# Altium footprint library Fancy.PcbLib: 119 footprints (part 2 of 8)
Each footprint in its own frame and in the unit in brackets; x right, y up, seen from the top. Pads: shape width x height; smd on the part's side, far side on the other; paste and mask are expansions set on the pad; w line width, h text height; cw(c..) or ccw(c..) is an arc to the next point about the centre after c.
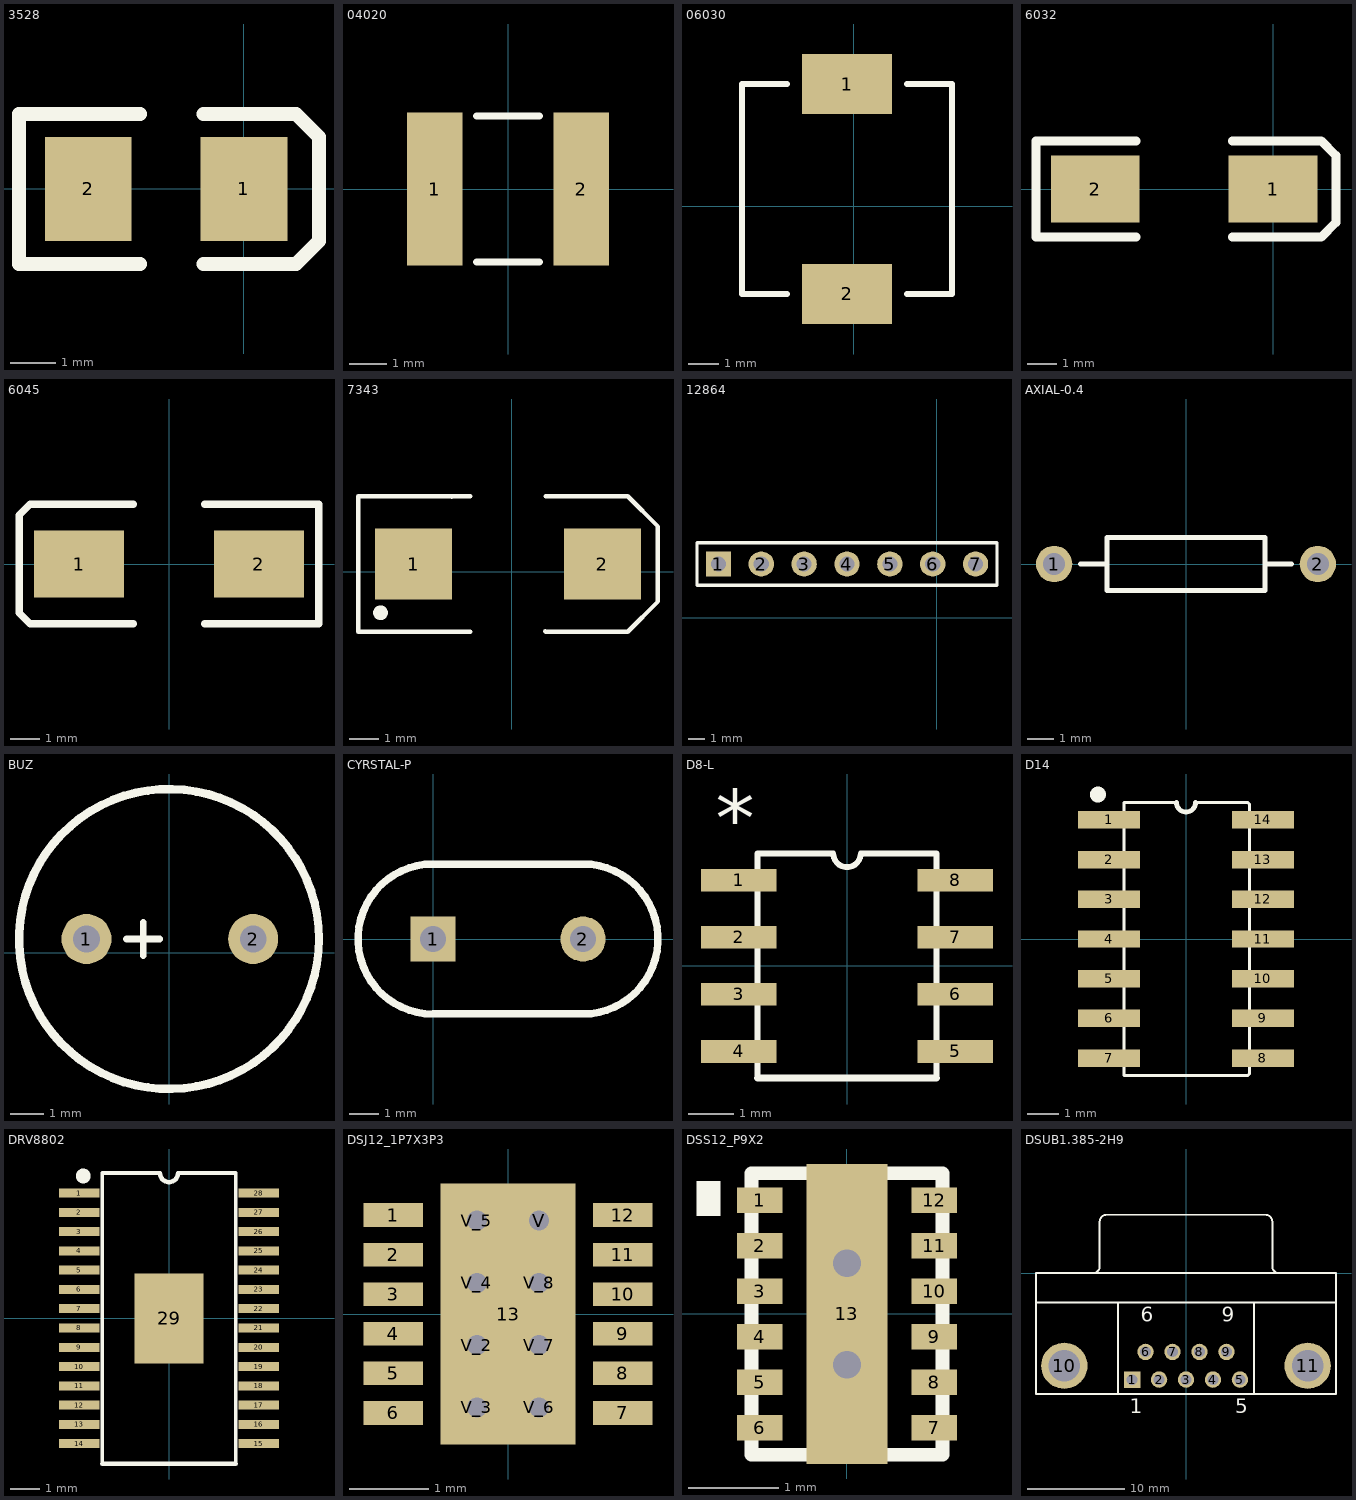
[diagram p1: the footprints below, top view; thin cyan lines are the x and y axes]

## 3528 [mil]
pads (2):
  rect 75x90 smd: 1(0,0) 2(-135,0)
Top Overlay:
  lines w12: -90,-65 -195,-65 -195,65 -90,65 ; -35,-65 45,-65 65,-45 65,45 45,65 -35,65

## 04020 [mm] "Chip Inductor"
height 0.6
pads (2):
  rect 1.5x4.14 smd: 1(-1.98,0) 2(1.98,0)
Top Overlay:
  lines w0.2: -0.85,-1.97 0.85,-1.97 ; -0.85,1.97 0.85,1.97

## 06030 [mm]
pads (2):
  rect 3x2 smd paste+0 mask+0.102: 1(-0.229,4.079) 2(-0.229,-2.921)
Top Overlay:
  lines w0.2: -2.229,-2.921 -3.729,-2.921 -3.729,4.079 -2.229,4.079 ; 1.771,-2.921 3.272,-2.921 3.272,4.079 1.771,4.079

## 6032 [mil]
pads (2):
  rect 120x90 smd: 1(0,0) 2(-240,0)
Top Overlay:
  lines w12: -185,-65 -320,-65 -320,65 -185,65 ; -55,-65 65,-65 85,-45 85,45 65,65 -55,65

## 6045 [mil]
pads (2):
  rect 120x90 smd: 1(-120,0) 2(120,0)
Top Overlay:
  lines w10: -47.5,-80 -185,-80 -200,-65 -200,65 -185,80 -47.5,80 ; 47.5,-80 200,-80 200,80 47.5,80

## 7343 [mm]
pads (2):
  rect 2.6x2.4 smd: 1(-3.327,0.254) 2(3.073,0.254)
Top Overlay:
  circle w0.25: c-4.443,-1.397 r0.125
  lines w0.152: -2.032,2.54 -2.046,2.554 ; -1.411,-2.046 -2.046,-2.046 -3.927,-2.046 -5.193,-2.046 -5.207,-2.032 -5.207,2.54 -5.193,2.554 -3.927,2.554 -2.046,2.554 ; -1.411,2.554 -2.046,2.554 ; 1.143,-2.032 1.157,-2.046 3.673,-2.046 3.923,-2.046 4.953,-1.016 4.953,1.524 3.923,2.554 3.673,2.554 1.157,2.554

## 12864 [mm]
pads (7):
  rect 1.5x1.5 hole 0.9: 1(-12.954,3.175)
  round 1.5 hole 0.9: 2(-10.414,3.175) 3(-7.874,3.175) 4(-5.334,3.175) 5(-2.794,3.175) 6(-0.254,3.175) 7(2.286,3.175)
Top Overlay:
  lines w0.2: -14.224,1.905 -14.224,4.445 3.556,4.445 3.556,1.905 -14.224,1.905

## AXIAL-0.4 [mm] "Resistor; 2 Leads"
height 2.032
pads (2):
  round 1.4 hole 0.85: 1(-5.08,0) 2(5.08,0)
Top Overlay:
  lines w0.2: -4.064,0 -3.048,0 ; 3.048,0 4.064,0 ; -3.048,-1.016 3.048,-1.016 3.048,1.016 -3.048,1.016 -3.048,-1.016

## BUZ [mil]
pads (2):
  round 59.06 hole 31.5 mask+4: 1(-97.43,16) 2(99.43,16)
Top Overlay:
  circle w10: c0,16 r177.12
  lines w7.87: -50.18,16 -10.81,16 ; -30.5,-3.69 -30.5,35.69

## CYRSTAL-P [mil]
pads (2):
  rect 60x60 hole 35: 1(0,0)
  round 60 hole 35: 2(200,0)
Top Overlay:
  lines w10: -10,100 210,100 ; 0,100 ccw(c0,0) 0,-100 210,-100 ; 200,-100 ccw(c200,0) 200,100

## D8-L [mil]
pads (8):
  rect 66x20 smd: 1(-95,75) 2(-95,25) 3(-95,-25) 4(-95,-75) 5(95,-75) 6(95,-25) 7(95,25) 8(95,75)
Top Overlay:
  lines w5: -78.5,-98.5 -78.5,98.5 -12,98.5 ccw(c0,98.5) 12,98.5 78.5,98.5 78.5,-98.5
  lines w6: -78.5,-98.5 78.5,-98.5
  text "*" at -115,105 h50

## D14 [mil]
pads (14):
  rect 78x22 smd: 1(-97,150) 2(-97,100) 3(-97,50) 4(-97,0) 5(-97,-50) 6(-97,-100) 7(-97,-150) 8(97,-150) 9(97,-100) 10(97,-50) 11(97,0) 12(97,50) 13(97,100) 14(97,150)
Top Overlay:
  circle w10: c-111,182 r5
  lines w3.94: -12,172 -78,172 -78,-172 -50.89,-172 50.89,-172 78,-172 80,-170 80,170 78,172 12,172
  lines w6: -12,172 ccw(c0,172) 12,172

## DRV8802 [mil]
pads (29):
  rect 54x12 smd: 1(-119,166.34) 2(-119,140.75) 3(-119,115.16) 4(-119,89.57) 5(-119,63.98) 6(-119,38.39) 7(-119,12.8) 8(-119,-12.8) 9(-119,-38.39) 10(-119,-63.98) 11(-119,-89.57) 12(-119,-115.16) 13(-119,-140.75) 14(-119,-166.34) 15(119,-166.34) 16(119,-140.75) 17(119,-115.16) 18(119,-89.57) 19(119,-63.98) 20(119,-38.39) 21(119,-12.8) 22(119,12.8) 23(119,38.39) 24(119,63.98) 25(119,89.57) 26(119,115.16) 27(119,140.75) 28(119,166.34)
  rect 92.13x119.69 smd: 29(0,0)
Top Overlay:
  circle w9.84: c-113.92,189 r4.92
  lines w5: -88.5,-192.91 -88.5,192.91 -12,192.91 ; 12,192.91 88.5,192.91 88.5,-192.91
  lines w6: -88.5,-192.91 88.5,-192.91 ; -12,192.91 ccw(c0,192.91) 12,192.91

## DSJ12_1P7X3P3 [mil]
pads (21):
  rect 29.69x11.81 smd paste-5.91: 1(-57.01,49.21) 2(-57.01,29.53) 3(-57.01,9.84) 4(-57.01,-9.84) 5(-57.01,-29.53) 6(-57.01,-49.21) 7(57.01,-49.21) 8(57.01,-29.53) 9(57.01,-9.84) 10(57.01,9.84) 11(57.01,29.53) 12(57.01,49.21)
  rect 66.93x129.92 smd paste-64.46 mask-64.5: 13(0,0)
  round 20 / inner round 60 / far side round 20 hole 10: V(15.5,46.5) V_2(-15.5,-15.5) V_3(-15.5,-46.5) V_4(-15.5,15.5) V_5(-15.5,46.5) V_6(15.5,-46.5) V_7(15.5,-15.5) V_8(15.5,15.5)
Top Paste:
  drawing of 27 lines, arcs and shapes, not listed
Top Solder:
  region: 0,-64.96
  region: 0,64.96
  region: 23.37,-67.46 23.37,67.46 35.96,67.46 35.96,-67.46
  region: 7.63,-67.46 7.63,67.46 -7.63,67.46 -7.63,-67.46
  region: -35.96,-67.46 -35.96,67.46 -23.37,67.46 -23.37,-67.46
  region: -35.96,-67.46 -35.96,-54.37 35.96,-54.37 35.96,-67.46
  region: -35.96,-38.63 -35.96,-23.37 35.96,-23.37 35.96,-38.63
  region: -35.96,-7.63 -35.96,7.63 35.96,7.63 35.96,-7.63
  region: -35.96,23.37 -35.96,38.63 35.96,38.63 35.96,23.37
  region: -35.96,54.37 -35.96,67.46 35.96,67.46 35.96,54.37
  region: 74.61,57.87 39.41,57.87 39.41,40.55 74.61,40.55
  region: 74.61,38.19 39.41,38.19 39.41,20.87 74.61,20.87
  region: 74.61,18.5 39.41,18.5 39.41,1.18 74.61,1.18
  region: 74.61,-1.18 39.41,-1.18 39.41,-18.5 74.61,-18.5
  region: 74.61,-20.87 39.41,-20.87 39.41,-38.19 74.61,-38.19
  region: 74.61,-40.55 39.41,-40.55 39.41,-57.87 74.61,-57.87
  region: -39.41,-40.55 -74.61,-40.55 -74.61,-57.87 -39.41,-57.87
  region: -39.41,-20.87 -74.61,-20.87 -74.61,-38.19 -39.41,-38.19
  region: -39.41,-1.18 -74.61,-1.18 -74.61,-18.5 -39.41,-18.5
  region: -39.41,18.5 -74.61,18.5 -74.61,1.18 -39.41,1.18
  region: -39.41,38.19 -74.61,38.19 -74.61,20.87 -39.41,20.87
  region: -39.41,57.87 -74.61,57.87 -74.61,40.55 -39.41,40.55

## DSS12_P9X2 [mm]
pads (13):
  rect 0.5x0.28 smd: 1(-0.959,1.25) 2(-0.959,0.75) 3(-0.959,0.25) 4(-0.959,-0.25) 5(-0.959,-0.75) 6(-0.959,-1.25) 7(0.959,-1.25) 8(0.959,-0.75) 9(0.959,-0.25) 10(0.959,0.25) 11(0.959,0.75) 12(0.959,1.25)
  rect 0.889x3.302 smd: 13(0,0)
via 0,-0.559 diameter 0.61 hole 0.305
via 0,0.559 diameter 0.61 hole 0.305
Top Overlay:
  region: -1.651,1.46 -1.397,1.46 -1.397,1.079 -1.651,1.079
  lines w0.152: -0.451,1.55 -1.05,1.55 -1.05,-1.55 -0.402,-1.55 ; 0.402,1.55 1.05,1.55 1.05,-1.55 0.451,-1.55

## DSUB1.385-2H9 [mm] "Connector; D Subminiature; 9 Position; Right Angle; Pitch 1.385 mm"
height 12.75
pads (11):
  rect 1.69x1.69 hole 1.09: 1(-5.54,-10.92)
  round 1.69 hole 1.09: 2(-2.77,-10.92) 3(0,-10.92) 4(2.77,-10.92) 5(5.54,-10.92) 6(-4.155,-8.08) 7(-1.385,-8.08) 8(1.385,-8.08) 9(4.155,-8.08)
  round 4.76 hole 3.26: 10(-12.495,-9.5) 11(12.495,-9.5)
Top Overlay:
  lines w0.2: -15.4,-3 15.4,-3 ; -9.56,0.005 ccw(c-9.56,0.7) -8.865,0.7 -8.865,5.3 ; -8.86,5.305 cw(c-8.165,5.305) -8.165,6 8.165,6 cw(c8.165,5.305) 8.86,5.305 ; -7,-12.4 -7,-3 ; 7,-12.4 7,-3 ; 8.865,5.3 8.865,0.7 ccw(c9.56,0.7) 9.56,0.005 ; -15.4,-12.4 -15.4,0 15.4,0 15.4,-12.4 -15.4,-12.4
  text "1" at -5.79,-14.375 h1.5
  text "5" at 5.04,-14.375 h1.5
  text "9" at 3.655,-4.975 h1.5
  text "6" at -4.655,-4.975 h1.5